# EAGLE library part MC001667 (library inker_super_board_parts)
MULTICOMP - MC001667 - MICRO USB, TYPE B, RCPT, SMT Source: Datasheet <https://componentsearchengine.com/Datasheets/2/MC001667.pdf>
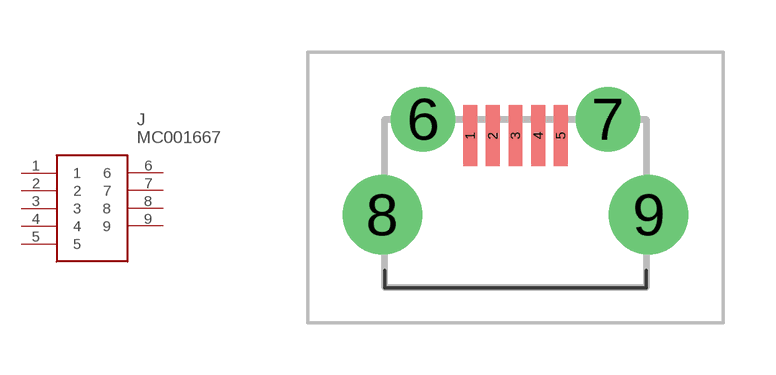
[diagram p1: symbol with the pads of MC001667; footprint MC001667]

Designator prefix J

## MC001667 (DESCRIPTION: MULTICOMP - MC001667 - MICRO USB, TYPE B, RCPT, SMT; MANUFACTURER_NAME: MULTICOMP; MANUFACTURER_PART_NUMBER: MC001667)  [MC001667]
1  1
2  2
3  3
4  4
5  5
6  6
7  7
8  8
9  9

## Footprint MC001667 (pad centres in mm)
MC001667
smd 0.4 x 1.75: 1 -1.3,1.487; 2 -0.65,1.487; 3 0,1.487; 4 0.65,1.487; 5 1.3,1.487
drill 1.235 pad 1.852: 6 -2.65,1.962; 7 2.65,1.962
drill 1.521 pad 2.281: 8 -3.825,-0.788; 9 3.825,-0.788